# Altium schematic symbol library nanoDAP.SCHLIB: 17 symbols
Pins are listed as number, name and electrical type; pins without a type are passive.

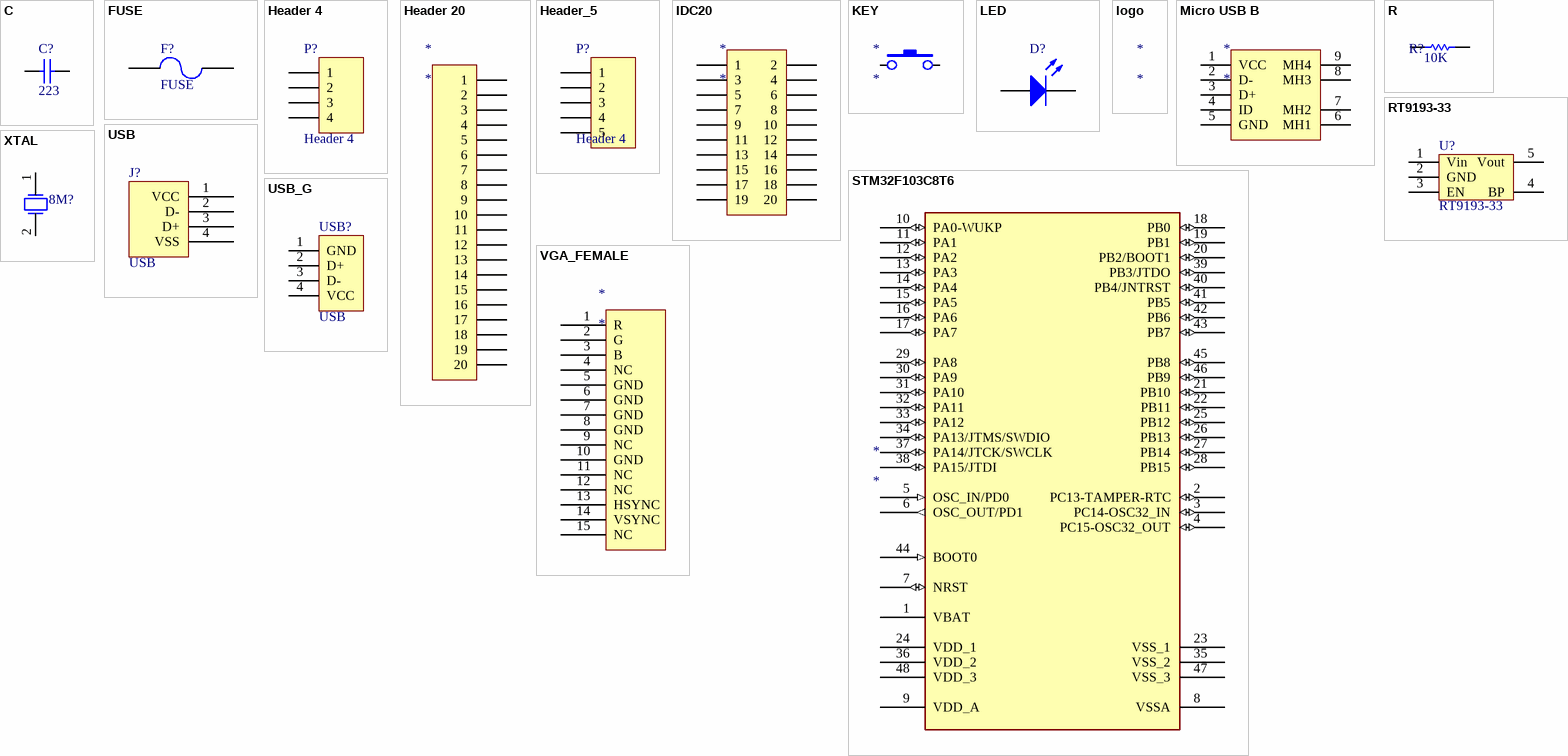
[diagram p0: symbols C to XTAL]

## C
designator C?, comment 223
Capacitor
footprint C0805 (Chip Capacitor, Body 2.0x1.3mm, IPC High Density)
footprint C0603
footprint C-RAD-0603 (贴片电容)
pins: 1, 2

## FUSE
designator F?
footprint FUSE
footprint 0603-1 (贴片带丝印)
pins: 1, 2

## Header 4
designator P?
Header, 4-Pin; LatestRevisionDate: 17-Jul-2002; LatestRevisionNote: Re-released for DXP Platform.; Publisher: Altium Limited
footprint p4
signal-integrity model Connector
pins: 1, 2, 3, 4

## Header 20
designator *
footprint HEADER_20x1
pins: 1, 2, 3, 4, 5, 6, 7, 8, 9, 10, 11, 12, 13, 14, 15, 16, 17, 18, 19, 20

## Header_5
designator P?, comment Header 4
Header, 4-Pin; LatestRevisionDate: 17-Jul-2002; LatestRevisionNote: Re-released for DXP Platform.; Publisher: Altium Limited
footprint p4
signal-integrity model Connector
pins: 1, 2, 3, 4, 5

## IDC20
designator *
pins: 1, 2, 3, 4, 5, 6, 7, 8, 9, 10, 11, 12, 13, 14, 15, 16, 17, 18, 19, 20

## KEY
designator *
footprint KEY
footprint SMT_SW_PTS_820
pins: 1, 2

## LED
designator D?, comment D0603  (value not drawn)
Typical RED, GREEN, YELLOW, AMBER GaAs LED; Published: 8-Jun-2000; LatestRevisionDate: 17-Jul-2002; LatestRevisionNote: Re-released for DXP Platform.; PackageVersion: Feb-2002; PackageReference: 3.2X1.6X1.1; Publisher: Altium Limited; PackageDescription: SM LED; 2 Flat Leads
simulation model LED2 (Diode)
footprint 0603-1 (贴片带丝印)
pins: 1 A, 2 K

## logo
designator *

## Micro USB B
designator *
pins: 1 VCC, 2 D-, 3 D+, 4 ID, 5 GND, 6 MH1, 7 MH2, 8 MH3, 9 MH4

## R
designator R?, comment value 10K  (hidden comment: R0603)
Resistor; Published: 8-Jun-2000; LatestRevisionDate: 17-Jul-2002; LatestRevisionNote: Re-released for DXP Platform.; PackageReference: AXIAL-0.3; Publisher: Altium Limited; PackageDescription: Axial Device, Thru-Hole; 2 Leads; 0.3 in Pin Spacing
simulation model RESISTOR (Resistor)
signal-integrity model Res
footprint r0603
pins: 1, 2

## RT9193-33
designator U?
footprint SOT23-5 (Max4173)
pins: 1 Vin, 2 GND, 3 EN, 4 BP, 5 Vout

## STM32F103C8T6
designator *
pins: 1 VBAT, 2 PC13-TAMPER-RTC (io), 3 PC14-OSC32_IN (io), 4 PC15-OSC32_OUT (io), 5 OSC_IN/PD0 (in), 6 OSC_OUT/PD1 (out), 7 NRST (io), 8 VSSA, 9 VDD_A, 10 PA0-WUKP (io), 11 PA1 (io), 12 PA2 (io), 13 PA3 (io), 14 PA4 (io), 15 PA5 (io), 16 PA6 (io), 17 PA7 (io), 18 PB0 (io), 19 PB1 (io), 20 PB2/BOOT1 (io), 21 PB10 (io), 22 PB11 (io), 23 VSS_1, 24 VDD_1, 25 PB12 (io), 26 PB13 (io), 27 PB14 (io), 28 PB15 (io), 29 PA8 (io), 30 PA9 (io), 31 PA10 (io), 32 PA11 (io), 33 PA12 (io), 34 PA13/JTMS/SWDIO (io), 35 VSS_2, 36 VDD_2, 37 PA14/JTCK/SWCLK (io), 38 PA15/JTDI (io), 39 PB3/JTDO (io), 40 PB4/JNTRST (io), 41 PB5 (io), 42 PB6 (io), 43 PB7 (io), 44 BOOT0 (in), 45 PB8 (io), 46 PB9 (io), 47 VSS_3, 48 VDD_3

## USB
designator J?
USB接口
footprint USB (USB贴片公头)
pins: 1 VCC, 2 D-, 3 D+, 4 VSS

## USB_G
designator USB?, comment USB
footprint USB_A_G
pins: 1 GND, 2 D+, 3 D-, 4 VCC

## VGA_FEMALE
designator *
footprint VGA15B (15针通讯接口)
pins: 1 R, 2 G, 3 B, 4 NC, 5 GND, 6 GND, 7 GND, 8 GND, 9 NC, 10 GND, 11 NC, 12 NC, 13 HSYNC, 14 VSYNC, 15 NC

## XTAL
designator 8M?  (value not drawn)
footprint xtal
pins: 1, 2